# EAGLE library part TPS77333 (library custom)
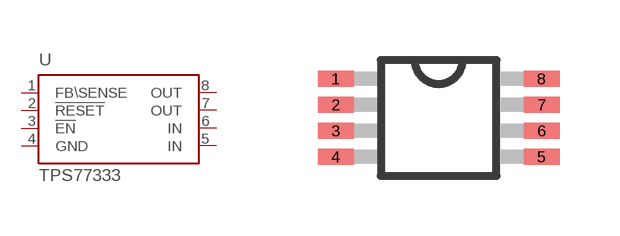
[diagram p2: symbol with the pads of TPS77333; footprint TPS77333]

Designator prefix -

## TPS77333  [TPS77333]
1  FB\SENSE  in
2  !RESET  in
3  !EN  in
4  GND  pwr
5  IN  in
6  IN  in
7  OUT  out
8  OUT  pas

## Footprint TPS77333 (pad centres in mm)
TPS77333 Auto generated by make-symbol-device-package-bsdl.ulp Rev. 43
smd 0.9 x 0.4: 1 -2.575,0.975; 2 -2.575,0.325; 3 -2.575,-0.325; 4 -2.575,-0.975; 5 2.575,-0.975; 6 2.575,-0.325; 7 2.575,0.325; 8 2.575,0.975